# Altium footprint library con-ebyelectro.PCBLIB: 5 footprints
Each footprint in its own frame and in the unit in brackets; x right, y up, seen from the top. Pads: shape width x height; smd on the part's side, far side on the other; paste and mask are expansions set on the pad; w line width, h text height; cw(c..) or ccw(c..) is an arc to the next point about the centre after c.
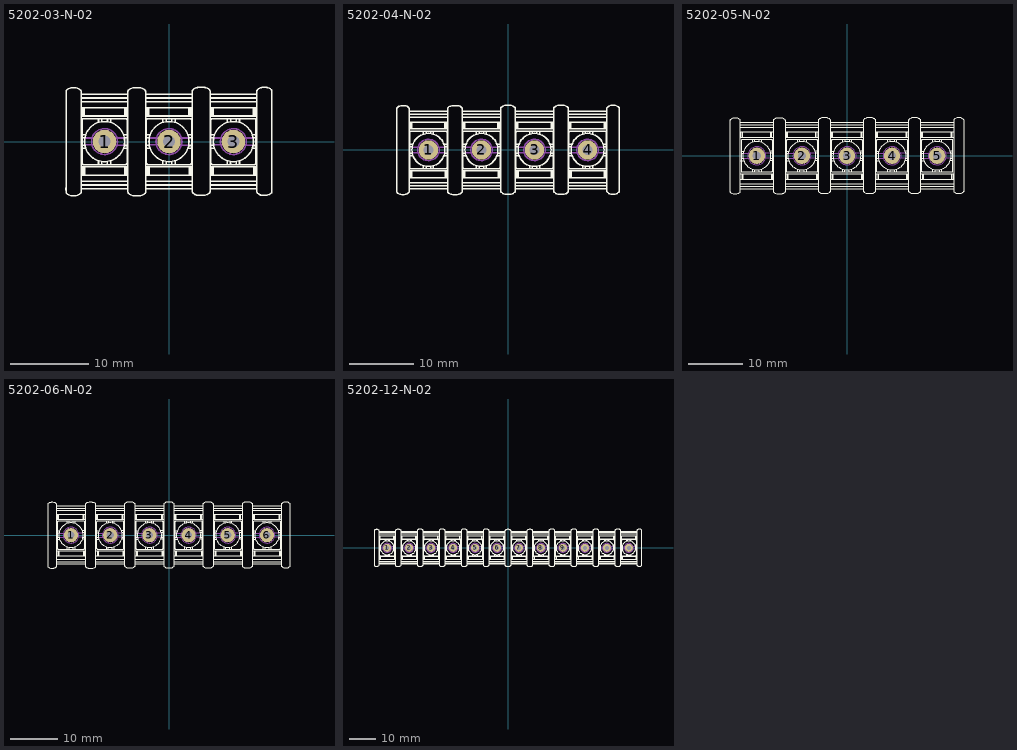
[diagram p0: the footprints below, top view; thin cyan lines are the x and y axes]

## 5202-03-N-02 [mm]
pads (3):
  round 3 hole 1.5: 1(-8.25,0) 2(0,0) 3(8.25,0)
Top Overlay:
  drawing of 193 lines, arcs and shapes, not listed
Mechanical 16:
  circle w0.203: c0,0 r1.662
  circle w0.203: c0,0 r1.662
  circle w0.203: c-8.25,0 r1.662
  circle w0.203: c-8.25,0 r1.662
  circle w0.203: c8.25,0 r1.662
  circle w0.203: c8.25,0 r1.662
  lines w0.203: -10.742,-0.427 -9.158,-0.427 cw(c-9.158,-0.905) -8.681,-0.905 -8.681,-1.559 ; -10.742,0.453 -9.133,0.453 ccw(c-9.133,0.905) -8.681,0.905 -8.681,1.584 ; -7.801,-1.559 -7.801,-0.88 cw(c-7.373,-0.88) -7.374,-0.453 -5.764,-0.453 ; -7.801,1.559 -7.801,0.93 ccw(c-7.323,0.93) -7.323,0.453 -5.789,0.453 ; -2.493,-0.427 -0.909,-0.427 cw(c-0.908,-0.905) -0.431,-0.905 -0.431,-1.559 ; -2.493,0.453 -0.883,0.453 ccw(c-0.883,0.905) -0.431,0.905 -0.431,1.584 ; 0.449,-1.559 0.449,-0.88 cw(c0.877,-0.88) 0.877,-0.453 2.486,-0.453 ; 0.449,1.559 0.449,0.93 ccw(c0.927,0.93) 0.927,0.453 2.46,0.453 ; 5.757,-0.427 7.342,-0.427 cw(c7.342,-0.905) 7.819,-0.905 7.819,-1.559 ; 5.757,0.453 7.367,0.453 ccw(c7.367,0.905) 7.819,0.905 7.819,1.584 ; 8.699,-1.559 8.699,-0.88 cw(c9.126,-0.88) 9.126,-0.453 10.736,-0.453 ; 8.699,1.559 8.699,0.93 ccw(c9.177,0.93) 9.177,0.453 10.71,0.453

## 5202-04-N-02 [mm]
pads (4):
  round 3 hole 1.5: 1(-12.375,0) 2(-4.125,0) 3(4.125,0) 4(12.375,0)
Top Overlay:
  drawing of 252 lines, arcs and shapes, not listed
Mechanical 16:
  circle w0.203: c-4.125,0 r1.662
  circle w0.203: c-4.125,0 r1.662
  circle w0.203: c-12.375,0 r1.662
  circle w0.203: c-12.375,0 r1.662
  circle w0.203: c4.125,0 r1.662
  circle w0.203: c4.125,0 r1.662
  circle w0.203: c12.375,0 r1.662
  circle w0.203: c12.375,0 r1.662
  lines w0.203: -14.867,-0.427 -13.283,-0.427 cw(c-13.283,-0.905) -12.806,-0.905 -12.806,-1.559 ; -14.867,0.453 -13.258,0.453 ccw(c-13.258,0.905) -12.806,0.905 -12.806,1.584 ; -11.926,-1.559 -11.926,-0.88 cw(c-11.498,-0.88) -11.499,-0.453 -9.889,-0.453 ; -11.926,1.559 -11.926,0.93 ccw(c-11.448,0.93) -11.448,0.453 -9.914,0.453 ; -6.617,-0.427 -5.034,-0.427 cw(c-5.033,-0.905) -4.556,-0.905 -4.556,-1.559 ; -6.617,0.453 -5.008,0.453 ccw(c-5.008,0.905) -4.556,0.905 -4.556,1.584 ; -3.676,-1.559 -3.676,-0.88 cw(c-3.248,-0.88) -3.248,-0.453 -1.639,-0.453 ; -3.676,1.559 -3.676,0.93 ccw(c-3.198,0.93) -3.198,0.453 -1.664,0.453 ; 1.632,-0.427 3.216,-0.427 cw(c3.217,-0.905) 3.694,-0.905 3.694,-1.559 ; 1.632,0.453 3.242,0.453 ccw(c3.242,0.905) 3.694,0.905 3.694,1.584 ; 4.574,-1.559 4.574,-0.88 cw(c5.002,-0.88) 5.002,-0.453 6.611,-0.453 ; 4.574,1.559 4.574,0.93 ccw(c5.052,0.93) 5.052,0.453 6.585,0.453 ; 9.882,-0.427 11.467,-0.427 cw(c11.467,-0.905) 11.944,-0.905 11.944,-1.559 ; 9.882,0.453 11.492,0.453 ccw(c11.492,0.905) 11.944,0.905 11.944,1.584 ; 12.824,-1.559 12.824,-0.88 cw(c13.252,-0.88) 13.251,-0.453 14.861,-0.453 ; 12.824,1.559 12.824,0.93 ccw(c13.302,0.93) 13.302,0.453 14.835,0.453

## 5202-05-N-02 [mm]
pads (5):
  round 3 hole 1.5: 1(-16.5,0) 2(-8.25,0) 3(0,0) 4(8.25,0) 5(16.5,0)
Top Overlay:
  drawing of 311 lines, arcs and shapes, not listed
Mechanical 16:
  circle w0.203: c-8.25,0 r1.662
  circle w0.203: c-8.25,0 r1.662
  circle w0.203: c-16.5,0 r1.662
  circle w0.203: c-16.5,0 r1.662
  circle w0.203: c0,0 r1.662
  circle w0.203: c0,0 r1.662
  circle w0.203: c8.25,0 r1.662
  circle w0.203: c8.25,0 r1.662
  circle w0.203: c16.5,0 r1.662
  circle w0.203: c16.5,0 r1.662
  lines w0.203: -18.993,-0.427 -17.408,-0.427 cw(c-17.408,-0.905) -16.931,-0.905 -16.931,-1.559 ; -18.993,0.453 -17.383,0.453 ccw(c-17.383,0.905) -16.931,0.905 -16.931,1.584 ; -16.051,-1.559 -16.051,-0.88 cw(c-15.624,-0.88) -15.624,-0.453 -14.014,-0.453 ; -16.051,1.559 -16.051,0.93 ccw(c-15.573,0.93) -15.573,0.453 -14.04,0.453 ; -10.742,-0.427 -9.158,-0.427 cw(c-9.158,-0.905) -8.681,-0.905 -8.681,-1.559 ; -10.742,0.453 -9.133,0.453 ccw(c-9.133,0.905) -8.681,0.905 -8.681,1.584 ; -7.801,-1.559 -7.801,-0.88 cw(c-7.373,-0.88) -7.374,-0.453 -5.764,-0.453 ; -7.801,1.559 -7.801,0.93 ccw(c-7.323,0.93) -7.323,0.453 -5.789,0.453 ; -2.493,-0.427 -0.909,-0.427 cw(c-0.908,-0.905) -0.431,-0.905 -0.431,-1.559 ; -2.493,0.453 -0.883,0.453 ccw(c-0.883,0.905) -0.431,0.905 -0.431,1.584 ; 0.449,-1.559 0.449,-0.88 cw(c0.877,-0.88) 0.877,-0.453 2.486,-0.453 ; 0.449,1.559 0.449,0.93 ccw(c0.927,0.93) 0.927,0.453 2.46,0.453 ; 5.757,-0.427 7.342,-0.427 cw(c7.342,-0.905) 7.819,-0.905 7.819,-1.559 ; 5.757,0.453 7.367,0.453 ccw(c7.367,0.905) 7.819,0.905 7.819,1.584 ; 8.699,-1.559 8.699,-0.88 cw(c9.126,-0.88) 9.126,-0.453 10.736,-0.453 ; 8.699,1.559 8.699,0.93 ccw(c9.177,0.93) 9.177,0.453 10.71,0.453 ; 14.008,-0.427 15.592,-0.427 cw(c15.592,-0.905) 16.069,-0.905 16.069,-1.559 ; 14.008,0.453 15.617,0.453 ccw(c15.617,0.905) 16.069,0.905 16.069,1.584 ; 16.949,-1.559 16.949,-0.88 cw(c17.377,-0.88) 17.376,-0.453 18.985,-0.453 ; 16.949,1.559 16.949,0.93 ccw(c17.427,0.93) 17.427,0.453 18.961,0.453

## 5202-06-N-02 [mm]
pads (6):
  round 3 hole 1.5: 1(-20.625,0) 2(-12.375,0) 3(-4.125,0) 4(4.125,0) 5(12.375,0) 6(20.625,0)
Top Overlay:
  drawing of 370 lines, arcs and shapes, not listed
Mechanical 16:
  circle w0.203: c-12.375,0 r1.662
  circle w0.203: c-12.375,0 r1.662
  circle w0.203: c-20.625,0 r1.662
  circle w0.203: c-20.625,0 r1.662
  circle w0.203: c-4.125,0 r1.662
  circle w0.203: c-4.125,0 r1.662
  circle w0.203: c4.125,0 r1.662
  circle w0.203: c4.125,0 r1.662
  circle w0.203: c12.375,0 r1.662
  circle w0.203: c12.375,0 r1.662
  circle w0.203: c20.625,0 r1.662
  circle w0.203: c20.625,0 r1.662
  lines w0.203: -23.118,-0.427 -21.534,-0.427 cw(c-21.533,-0.905) -21.056,-0.905 -21.056,-1.559 ; -23.118,0.453 -21.508,0.453 ccw(c-21.508,0.905) -21.056,0.905 -21.056,1.584 ; -20.176,-1.559 -20.176,-0.88 cw(c-19.748,-0.88) -19.748,-0.453 -18.139,-0.453 ; -20.176,1.559 -20.176,0.93 ccw(c-19.698,0.93) -19.698,0.453 -18.165,0.453 ; -14.867,-0.427 -13.283,-0.427 cw(c-13.283,-0.905) -12.806,-0.905 -12.806,-1.559 ; -14.867,0.453 -13.258,0.453 ccw(c-13.258,0.905) -12.806,0.905 -12.806,1.584 ; -11.926,-1.559 -11.926,-0.88 cw(c-11.498,-0.88) -11.499,-0.453 -9.889,-0.453 ; -11.926,1.559 -11.926,0.93 ccw(c-11.448,0.93) -11.448,0.453 -9.914,0.453 ; -6.617,-0.427 -5.034,-0.427 cw(c-5.033,-0.905) -4.556,-0.905 -4.556,-1.559 ; -6.617,0.453 -5.008,0.453 ccw(c-5.008,0.905) -4.556,0.905 -4.556,1.584 ; -3.676,-1.559 -3.676,-0.88 cw(c-3.248,-0.88) -3.248,-0.453 -1.639,-0.453 ; -3.676,1.559 -3.676,0.93 ccw(c-3.198,0.93) -3.198,0.453 -1.664,0.453 ; 1.632,-0.427 3.216,-0.427 cw(c3.217,-0.905) 3.694,-0.905 3.694,-1.559 ; 1.632,0.453 3.242,0.453 ccw(c3.242,0.905) 3.694,0.905 3.694,1.584 ; 4.574,-1.559 4.574,-0.88 cw(c5.002,-0.88) 5.002,-0.453 6.611,-0.453 ; 4.574,1.559 4.574,0.93 ccw(c5.052,0.93) 5.052,0.453 6.585,0.453 ; 9.882,-0.427 11.467,-0.427 cw(c11.467,-0.905) 11.944,-0.905 11.944,-1.559 ; 9.882,0.453 11.492,0.453 ccw(c11.492,0.905) 11.944,0.905 11.944,1.584 ; 12.824,-1.559 12.824,-0.88 cw(c13.252,-0.88) 13.251,-0.453 14.861,-0.453 ; 12.824,1.559 12.824,0.93 ccw(c13.302,0.93) 13.302,0.453 14.835,0.453 ; 18.133,-0.427 19.716,-0.427 cw(c19.717,-0.905) 20.194,-0.905 20.194,-1.559 ; 18.133,0.453 19.742,0.453 ccw(c19.742,0.905) 20.194,0.905 20.194,1.584 ; 21.074,-1.559 21.074,-0.88 cw(c21.502,-0.88) 21.502,-0.453 23.111,-0.453 ; 21.074,1.559 21.074,0.93 ccw(c21.552,0.93) 21.552,0.453 23.086,0.453

## 5202-12-N-02 [mm]
pads (12):
  round 3 hole 1.5: 1(-45.375,0) 2(-37.125,0) 3(-28.875,0) 4(-20.625,0) 5(-12.375,0) 6(-4.125,0) 7(4.125,0) 8(12.375,0) 9(20.625,0) 10(28.875,0) 11(37.125,0) 12(45.375,0)
Top Overlay:
  drawing of 724 lines, arcs and shapes, not listed
Mechanical 16:
  drawing of 168 lines, arcs and shapes, not listed